# EAGLE library part 615006141121 (library InputOutputIO (rev18a))
WR-MJ Horizontal Plastic 6P6C Modular Jack Tab Down, 6 Pins=>Code : Con_I-O_MJ-H_Plastic_Down_615006141121 <http://katalog.we-online.de/media/images/eican/Con_I-O_MJ-H_Plastic_Down_61500x141121_pf2.jpg> Details see: http://katalog.we-online.de/en/em/MJ_HORIZONTAL_PLASTIC_6PXC_TAB_DOWN/ Created 2014-07-10, Karrer Zheng 2014 (C) Würth Elektronik
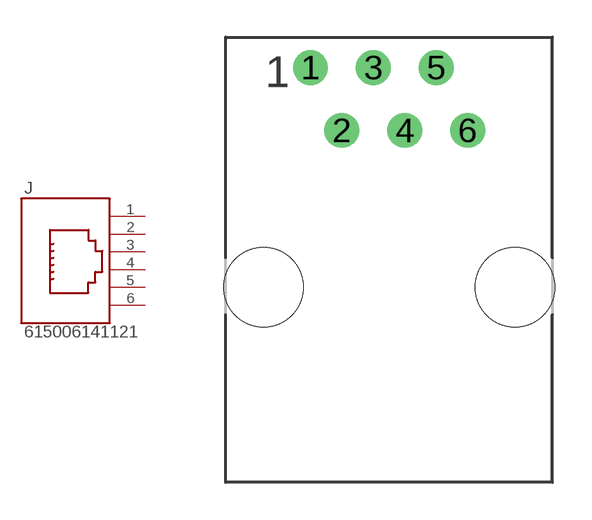
[diagram p98: symbol with the pads of 615006141121; footprint 615006141121]

Designator prefix J

## 615006141121  [615006141121]
1  6  pas
2  5  pas
3  4  pas
4  3  pas
5  2  pas
6  1  pas

## Footprint 615006141121 (pad centres in mm)
WR-MJ Horizontal Plastic 6P6C Modular Jack Tab Down, 6 Pins
drill 0.9: 1 -3.175,8.89; 2 -1.905,6.35; 3 -0.635,8.89; 4 0.635,6.35; 5 1.905,8.89; 6 3.175,6.35
hole 3.2 at -5.08,0
hole 3.2 at 5.08,0